# Altium footprint library Antennas.PcbLib: 5 footprints
Each footprint in its own frame and in the unit in brackets; x right, y up, seen from the top. Pads: shape width x height; smd on the part's side, far side on the other; paste and mask are expansions set on the pad; w line width, h text height; cw(c..) or ccw(c..) is an arc to the next point about the centre after c.
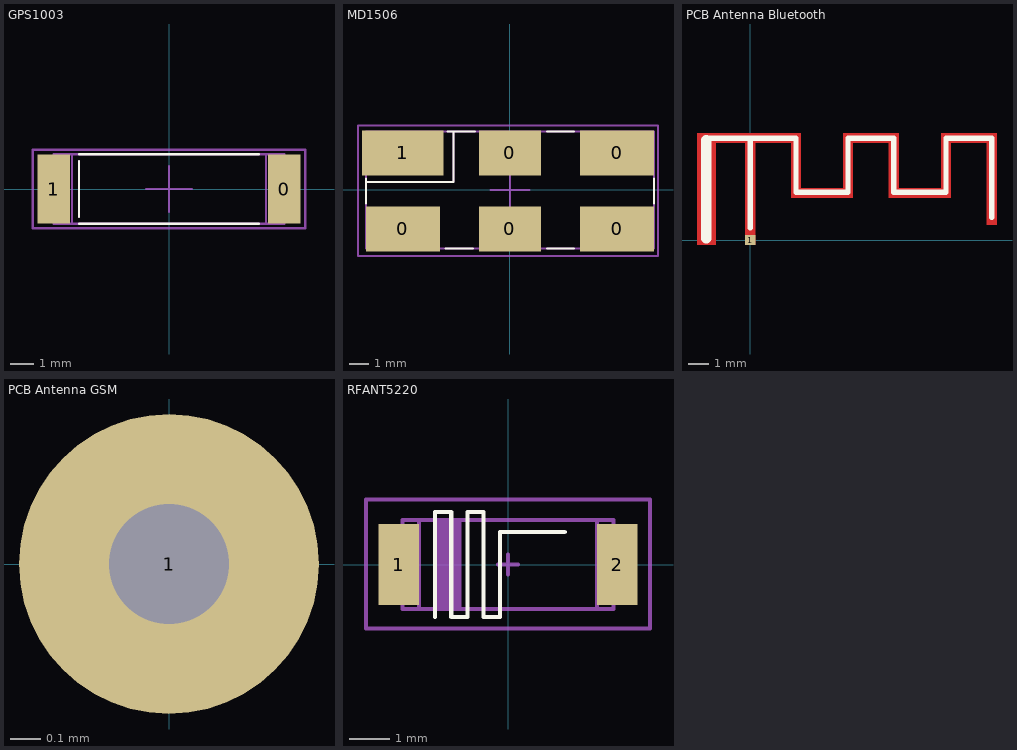
[diagram p0: the footprints below, top view; thin cyan lines are the x and y axes]

## GPS1003 [mm] "Multilayer Chip Antenna for GPS"
height 1.5
pads (2):
  rect 1.4x3 smd: 0(5,0) 1(-5,0)
Top Overlay:
  lines w0.1: -3.9,-1.5 3.9,-1.5 ; -3.9,-1.2 -3.9,1.2 ; -3.9,1.5 3.9,1.5
Top Package:
  lines w0.1: -5.9,-1.7 -5.9,1.7 5.9,1.7 5.9,-1.7 -5.9,-1.7
Top Border:
  lines w0.1: -4.2,-1.5 -4.2,1.5 ; -3.9,-1.2 -3.9,1.2 ; -1,0 1,0 ; 0,-1 0,1 ; 4.2,-1.5 4.2,1.5 ; -5,-1.5 5,-1.5 5,1.5 -5,1.5 -5,-1.5
3D body "User Library-GPS1003.step": height 1.49, standoff 0, extent -5,-1.5 5,1.5

## MD1506 [mm] "Multilayer Chip Antenna for  Extra Wide Band"
height 1.6
pads (6):
  rect 3.8x2.3 smd: 0(-5.5,-2) 0(5.5,-2) 0(5.5,1.9)
  rect 3.2x2.3 smd: 0(0,-2) 0(0,1.9)
  rect 4.2x2.3 smd: 1(-5.5,1.9)
Top Overlay:
  lines w0.1: -7.4,-0.7 -7.4,0.6 ; -7.4,0.4 -2.9,0.4 -2.9,3 ; -3.3,-3 -1.9,-3 ; -3.2,3 -1.8,3 ; 1.9,-3 3.3,-3 ; 1.9,3 3.3,3 ; 7.4,-0.7 7.4,0.6
Top Package:
  lines w0.1: -7.8,-3.4 -7.8,3.3 7.6,3.3 7.6,-3.4 -7.8,-3.4
Top Border:
  lines w0.1: -7.4,-1.3 -3.9,-1.3 -3.9,-3 ; -7.4,0.4 -2.9,0.4 -2.9,3 ; -7.4,1.3 -3.9,1.3 -3.9,3 ; -1.2,-3 -1.2,-1.3 1.2,-1.3 1.2,-3 ; -1.2,3 -1.2,1.3 1.2,1.3 1.2,3 ; -1,0 1,0 ; 0,-1 0,1 ; 3.9,-3 3.9,-1.3 7.4,-1.3 ; 3.9,3 3.9,1.3 7.4,1.3 ; -7.4,-3 7.4,-3 7.4,3 -7.4,3 -7.4,-3
3D body "MD1506.stp": height 1.66, standoff 0, extent -7.4,-3 7.4,3

## PCB Antenna Bluetooth [mm] "PCB Antenna Bluetooth"
pads (1):
  rect 0.5x0.5 smd: 1(0,0.01)
Top Layer:
  rectangle: 0.25,4.66 1.95,5.16
  rectangle: 1.95,2.02 2.45,4.7
  rectangle: -2.55,4.66 2.45,5.16
  rectangle: -2.55,-0.24 -1.65,4.7
  rectangle: -0.25,-0.24 0.25,4.7
  rectangle: 2.4,2.02 4.5,2.52
  rectangle: 4.45,2.02 4.95,4.7
  rectangle: 4.45,4.66 7.15,5.16
  rectangle: 6.65,2.02 7.15,4.7
  rectangle: 7.1,2.02 9.2,2.52
  rectangle: 9.15,4.66 11.85,5.16
  rectangle: 9.15,2.02 9.65,4.7
  rectangle: 11.35,0.72 11.85,4.7
Top Overlay:
  lines w0.25: -2.1,4.8 -2,4.9
  lines w0.254: -2,4.9 2.2,4.9 2.2,2.3 4.7,2.3 4.7,4.9 6.9,4.9 6.9,2.3 9.4,2.3 9.4,4.9 11.6,4.9 11.6,1.1 ; 0,0.6 0,4.9
  lines w0.5: -2.1,0.1 -2.1,4.8

## PCB Antenna GSM [mm] "PCB Antenna GSM"
pads (1):
  round 1 hole 0.4: 1(0,0)

## RFANT5220 [mm] "Chip Antenna, Body 5.2x2.0mm"
height 1.15
pads (2):
  rect 1x2 smd: 1(-2.7,0) 2(2.7,0)
Top Overlay:
  lines w0.1: -1.8,-1.3 -1.8,1.3 -1.4,1.3 -1.4,-1.3 -1,-1.3 -1,1.3 -0.6,1.3 -0.6,-1.3 -0.2,-1.3 -0.2,0.8 1.4,0.8
Top Package:
  rectangle: -1.8,-1.1 -1.2,1.1
  lines w0.1: -2.2,-1.1 -2.2,1.1 ; -1.8,-1.1 -1.8,1.1 ; -1.2,-1.1 -1.2,1.1 ; 2.2,-1.1 2.2,1.1 ; -2.6,-1.1 2.6,-1.1 2.6,1.1 -2.6,1.1 -2.6,-1.1
Top Border:
  lines w0.1: -0.25,0 0.25,0 ; 0,-0.25 0,0.25 ; -3.5,-1.575 3.5,-1.575 3.5,1.6 -3.5,1.6 -3.5,-1.575
3D body "RFANT5220.stp": height 1.16, standoff -0.01, extent -2.61,-1.01 2.61,1.01